# EAGLE library part TRANSISTOR-VISHAY-SI7288DP (library Pygmy)
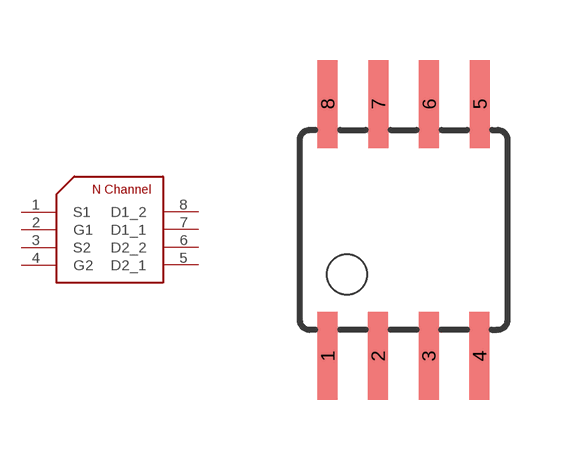
[diagram p46: symbol with the pads of SOIC8; footprint SOIC8]

Designator prefix -

## TRANSISTOR-VISHAY-SI7288DP  [SOIC8]
1  S1
2  G1
3  S2
4  G2
5  D2_1
6  D2_2
7  D1_1
8  D1_2

## Footprint SOIC8 (pad centres in mm)
Wide Plastic Gull Wing Small Outline Package
smd 0.5 x 2.2: 1 -1.905,-3.154; 2 -0.645,-3.154; 3 0.625,-3.154; 4 1.895,-3.154; 5 1.905,3.154; 6 0.635,3.154; 7 -0.635,3.154; 8 -1.905,3.154